# EAGLE library part MC14051B (library maxorig)
MC14051B - Analog SP8T switch with digital controls Includes disconnect pin required for break before make functionality. Simple digital interface, possible to use toggle switches or other electromechanical controls. For lower Ron use 74HC4501. Technical specifications: VCC: 3-18V Analog range (VCC-VEE): 3-18V Ron@5V: 250 Ohm VEE must be lower than GND
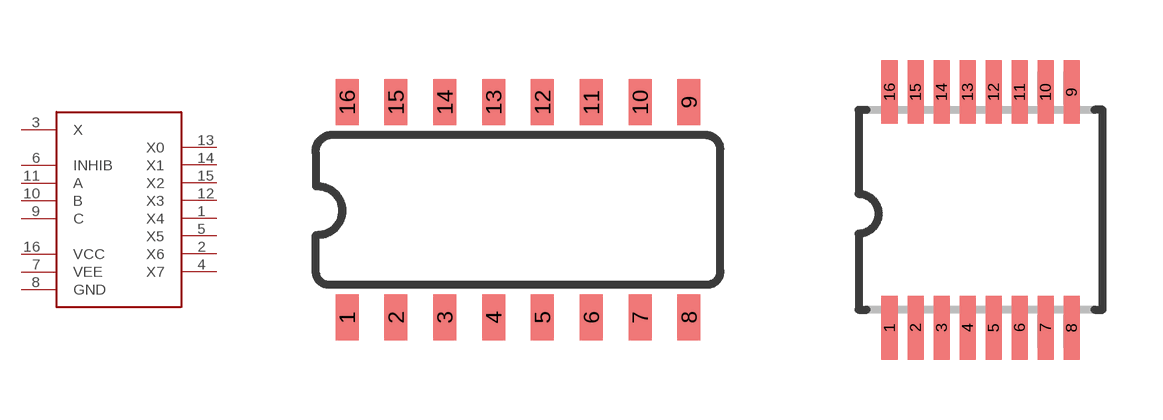
[diagram p14: symbol with the pads of SOIC-16; footprints SOIC-16, TSSOP16]

Designator prefix -

## MC14051BSOIC  [SOIC-16]
1  X4
2  X6
3  X
4  X7
5  X5
6  INHIB
7  VEE
8  GND
9  C
10  B
11  A
12  X3
13  X0
14  X1
15  X2
16  VCC

## MC14051BTSSOP  [TSSOP16]
Pads as for SOIC-16

## Footprint SOIC-16 (pad centres in mm)
smd 0.6 x 1.2: 1 -4.445,-2.8; 2 -3.175,-2.8; 3 -1.905,-2.8; 4 -0.635,-2.8; 5 0.635,-2.8; 6 1.905,-2.8; 7 3.175,-2.8; 8 4.445,-2.8; 9 4.445,2.8; 10 3.175,2.8; 11 1.905,2.8; 12 0.635,2.8; 13 -0.635,2.8; 14 -1.905,2.8; 15 -3.175,2.8; 16 -4.445,2.8

## Footprint TSSOP16 (pad centres in mm)
TSOP16 thin small outline package
smd 0.4 x 1.6: 1 -2.225,-2.85; 2 -1.575,-2.85; 3 -0.925,-2.85; 4 -0.275,-2.85; 5 0.375,-2.85; 6 1.025,-2.85; 7 1.675,-2.85; 8 2.325,-2.85; 9 2.325,3.05; 10 1.675,3.05; 11 1.025,3.05; 12 0.375,3.05; 13 -0.275,3.05; 14 -0.925,3.05; 15 -1.575,3.05; 16 -2.225,3.05